# Altium footprint library lib-Microcontrollers_pcb.PcbLib: 4 footprints
Each footprint in its own frame and in the unit in brackets; x right, y up, seen from the top. Pads: shape width x height; smd on the part's side, far side on the other; paste and mask are expansions set on the pad; w line width, h text height; cw(c..) or ccw(c..) is an arc to the next point about the centre after c.
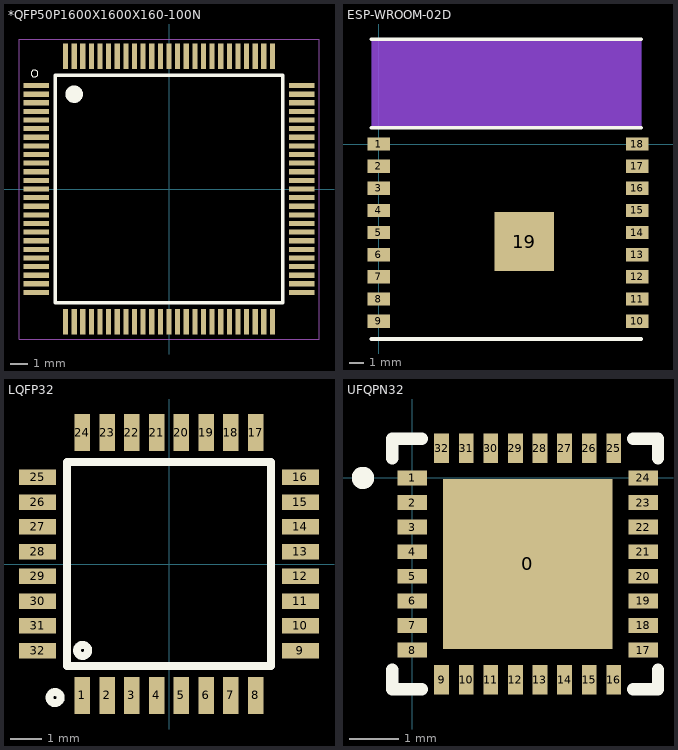
[diagram p0: the footprints below, top view; thin cyan lines are the x and y axes]

## *QFP50P1600X1600X160-100N [mm]
pads (100):
  rect 1.5x0.3 smd: 1(-7.7,6) 2(-7.7,5.5) 3(-7.7,5) 4(-7.7,4.5) 5(-7.7,4) 6(-7.7,3.5) 7(-7.7,3) 8(-7.7,2.5) 9(-7.7,2) 10(-7.7,1.5) 11(-7.7,1) 12(-7.7,0.5) 13(-7.7,0) 14(-7.7,-0.5) 15(-7.7,-1) 16(-7.7,-1.5) 17(-7.7,-2) 18(-7.7,-2.5) 19(-7.7,-3) 20(-7.7,-3.5) 21(-7.7,-4) 22(-7.7,-4.5) 23(-7.7,-5) 24(-7.7,-5.5) 25(-7.7,-6) 51(7.7,-6) 52(7.7,-5.5) 53(7.7,-5) 54(7.7,-4.5) 55(7.7,-4) 56(7.7,-3.5) 57(7.7,-3) 58(7.7,-2.5) 59(7.7,-2) 60(7.7,-1.5) 61(7.7,-1) 62(7.7,-0.5) 63(7.7,0) 64(7.7,0.5) 65(7.7,1) 66(7.7,1.5) 67(7.7,2) 68(7.7,2.5) 69(7.7,3) 70(7.7,3.5) 71(7.7,4) 72(7.7,4.5) 73(7.7,5) 74(7.7,5.5) 75(7.7,6)
  rect 0.3x1.5 smd: 26(-6,-7.7) 27(-5.5,-7.7) 28(-5,-7.7) 29(-4.5,-7.7) 30(-4,-7.7) 31(-3.5,-7.7) 32(-3,-7.7) 33(-2.5,-7.7) 34(-2,-7.7) 35(-1.5,-7.7) 36(-1,-7.7) 37(-0.5,-7.7) 38(0,-7.7) 39(0.5,-7.7) 40(1,-7.7) 41(1.5,-7.7) 42(2,-7.7) 43(2.5,-7.7) 44(3,-7.7) 45(3.5,-7.7) 46(4,-7.7) 47(4.5,-7.7) 48(5,-7.7) 49(5.5,-7.7) 50(6,-7.7) 76(6,7.7) 77(5.5,7.7) 78(5,7.7) 79(4.5,7.7) 80(4,7.7) 81(3.5,7.7) 82(3,7.7) 83(2.5,7.7) 84(2,7.7) 85(1.5,7.7) 86(1,7.7) 87(0.5,7.7) 88(0,7.7) 89(-0.5,7.7) 90(-1,7.7) 91(-1.5,7.7) 92(-2,7.7) 93(-2.5,7.7) 94(-3,7.7) 95(-3.5,7.7) 96(-4,7.7) 97(-4.5,7.7) 98(-5,7.7) 99(-5.5,7.7) 100(-6,7.7)
Top Overlay:
  circle w0: c-7.8,6.7 r0.2
  circle w0.3: c-5.5,5.5 r0.361
  circle w0.3: c-5.5,5.5 r0.141
  lines w0.2: -6.6,-6.6 6.6,-6.6 6.6,6.6 -6.6,6.6 -6.6,-6.6
Mechanical 13:
  circle w0: c-5.5,5.5 r0.4
  circle w0: c-5.5,5.5 r0.4
Mechanical 16:
  lines w0.05: -8.7,-8.7 8.7,-8.7 8.7,8.7 -8.7,8.7 -8.7,-8.7

## ESP-WROOM-02D [mm] "also compatible with -02U"
pads (19):
  rect 1.5x0.9 smd: 1(0,0) 2(0,-1.5) 3(0,-3) 4(0,-4.5) 5(0,-6) 6(0,-7.5) 7(0,-9) 8(0,-10.5) 9(0,-12) 10(17.5,-12) 11(17.5,-10.5) 12(17.5,-9) 13(17.5,-7.5) 14(17.5,-6) 15(17.5,-4.5) 16(17.5,-3) 17(17.5,-1.5) 18(17.5,0)
  rect 4x4 smd: 19(9.85,-6.61)
Top Layer keep-out:
  rectangle: -0.508,1.016 17.78,7.112
Bottom Layer keep-out:
  rectangle: -0.508,1.016 17.78,7.112
Top Overlay:
  lines w0.254: -0.508,-13.208 17.78,-13.208 ; -0.508,1.1 17.78,1.1 ; -0.508,7.1 17.78,7.1

## LQFP32 [mm] "STM LQFP32"
pads (32):
  rect 0.5x1.2 smd: 1(-2.8,-4.25) 2(-2,-4.25) 3(-1.2,-4.25) 4(-0.4,-4.25) 5(0.4,-4.25) 6(1.2,-4.25) 7(2,-4.25) 8(2.8,-4.25) 17(2.8,4.25) 18(2,4.25) 19(1.2,4.25) 20(0.4,4.25) 21(-0.4,4.25) 22(-1.2,4.25) 23(-2,4.25) 24(-2.8,4.25)
  rect 1.2x0.5 smd: 9(4.25,-2.8) 10(4.25,-2) 11(4.25,-1.2) 12(4.25,-0.4) 13(4.25,0.4) 14(4.25,1.2) 15(4.25,2) 16(4.25,2.8) 25(-4.25,2.8) 26(-4.25,2) 27(-4.25,1.2) 28(-4.25,0.4) 29(-4.25,-0.4) 30(-4.25,-1.2) 31(-4.25,-2) 32(-4.25,-2.8)
Top Overlay:
  circle w0.254: c-2.794,-2.794 r0.18
  circle w0.254: c-3.683,-4.318 r0.18
  lines w0.254: -3.302,-3.302 -3.302,3.302 3.302,3.302 3.302,-3.302 -3.302,-3.302
3D body: height 1.6, standoff 0, extent -3.556,-3.556 3.556,3.556

## UFQPN32 [mm] "STM UFQPN32"
height 0.55
pads (33):
  rect 3.45x3.45 smd paste-2.54: 0(2.35,-1.75)
  rect 0.6x0.3 smd: 1(0,0) 2(0,-0.5) 3(0,-1) 4(0,-1.5) 5(0,-2) 6(0,-2.5) 7(0,-3) 8(0,-3.5) 17(4.7,-3.5) 18(4.7,-3) 19(4.7,-2.5) 20(4.7,-2) 21(4.7,-1.5) 22(4.7,-1) 23(4.7,-0.5) 24(4.7,0)
  rect 0.3x0.6 smd: 9(0.6,-4.1) 10(1.1,-4.1) 11(1.6,-4.1) 12(2.1,-4.1) 13(2.6,-4.1) 14(3.1,-4.1) 15(3.6,-4.1) 16(4.1,-4.1) 25(4.1,0.6) 26(3.6,0.6) 27(3.1,0.6) 28(2.6,0.6) 29(2.1,0.6) 30(1.6,0.6) 31(1.1,0.6) 32(0.6,0.6)
Top Overlay:
  circle w0.254: c-1,0 r0.1
  lines w0.254: -0.4,-3.9 -0.4,-4.3 0.2,-4.3 ; -0.4,0.4 -0.4,0.8 0.2,0.8 ; 4.5,-4.3 5,-4.3 5,-3.9 ; 4.5,0.8 5,0.8 5,0.4
Top Paste:
  rectangle: 2.6,-3.2 3.9,-2
  rectangle: 0.8,-3.2 2.1,-2
  rectangle: 2.6,-1.4 3.9,-0.2
  rectangle: 0.8,-1.4 2.1,-0.2
3D body: height 0.55, standoff 0, extent 0,-4.1 4.7,0.5